# Altium schematic symbol library SchemaitcLib.SchLib: 140 symbols (part 1 of 2)
Pins are listed as number, name and electrical type; pins without a type are passive.

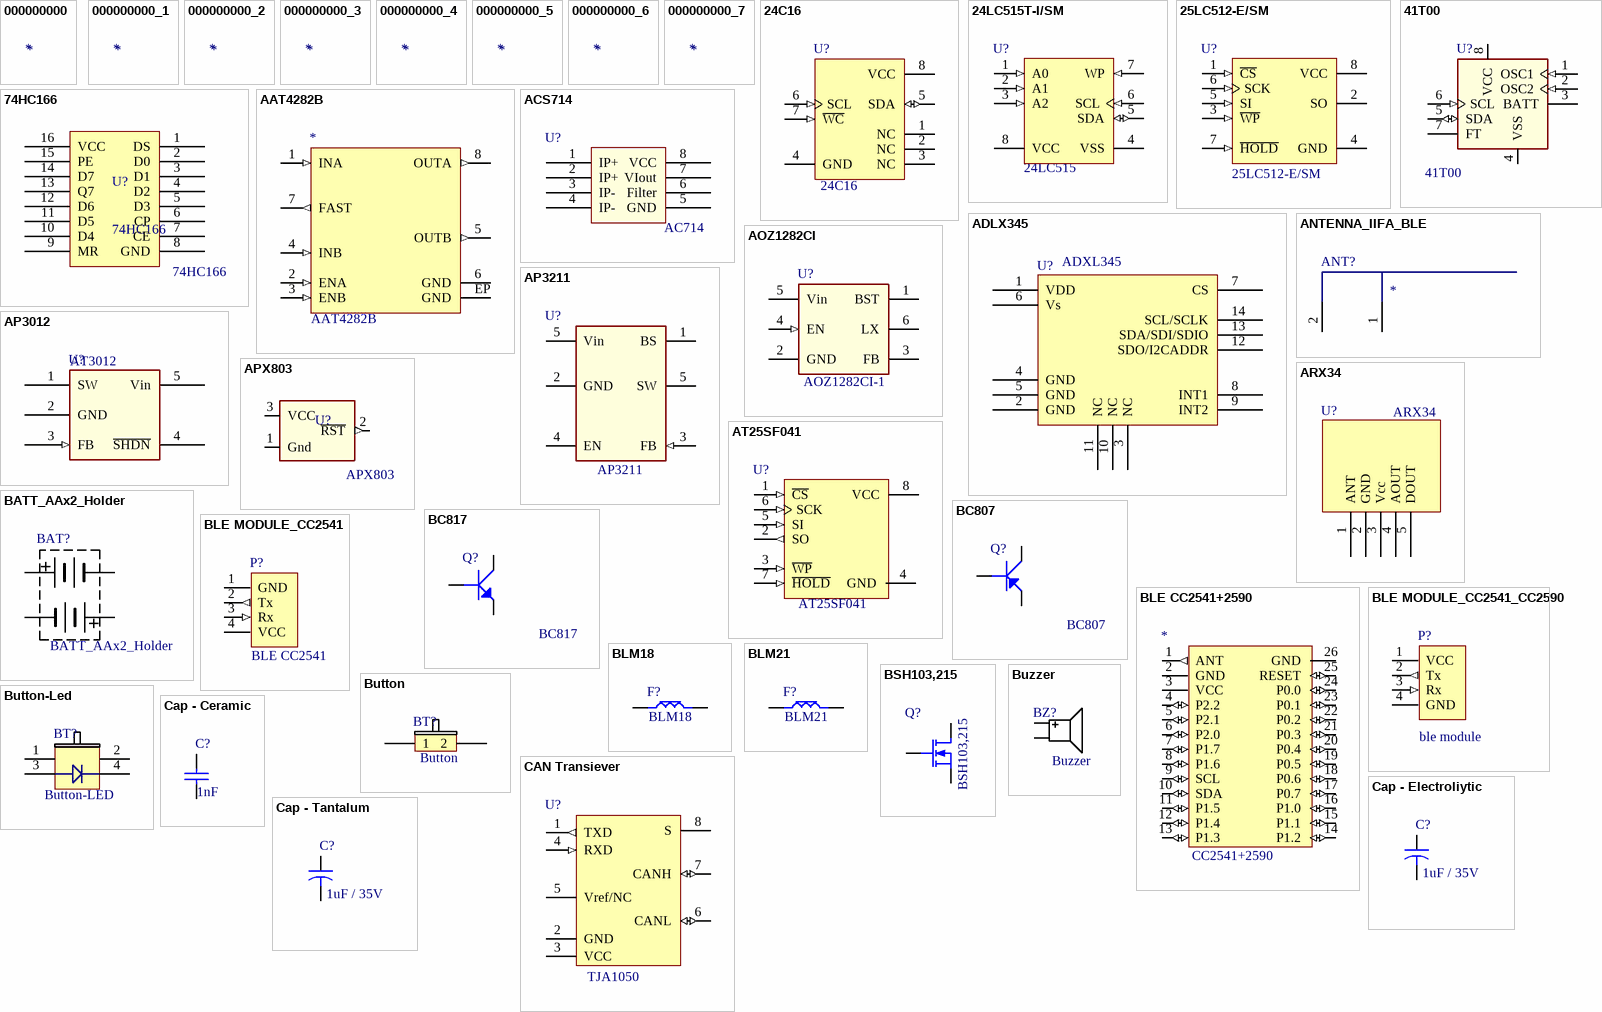
[diagram p0: symbols 000000000 to Cap - Tantalum]

## 000000000
designator *
Satıcı: Digikey; Depo Kodu: *; Paket: *; Satın Alma Linki: *; Datasheet: *; Manufacture Code: *; Satıcı Kodu: *; Value: *

## 000000000_1
designator *
Satıcı: Digikey; Depo Kodu: *; Paket: *; Satın Alma Linki: *; Datasheet: *; Manufacture Code: *; Satıcı Kodu: *; Value: *

## 000000000_2
designator *
Satıcı: Digikey; Depo Kodu: *; Paket: *; Satın Alma Linki: *; Datasheet: *; Manufacture Code: *; Satıcı Kodu: *; Value: *

## 000000000_3
designator *
Satıcı: Digikey; Depo Kodu: *; Paket: *; Satın Alma Linki: *; Datasheet: *; Manufacture Code: *; Satıcı Kodu: *; Value: *

## 000000000_4
designator *
Satıcı: Digikey; Depo Kodu: *; Paket: *; Satın Alma Linki: *; Datasheet: *; Manufacture Code: *; Satıcı Kodu: *; Value: *

## 000000000_5
designator *
Satıcı: Digikey; Depo Kodu: *; Paket: *; Satın Alma Linki: *; Datasheet: *; Manufacture Code: *; Satıcı Kodu: *; Value: *

## 000000000_6
designator *
Satıcı: Digikey; Depo Kodu: *; Paket: *; Satın Alma Linki: *; Datasheet: *; Manufacture Code: *; Satıcı Kodu: *; Value: *

## 000000000_7
designator *
Satıcı: Digikey; Depo Kodu: *; Paket: *; Satın Alma Linki: *; Datasheet: *; Manufacture Code: *; Satıcı Kodu: *; Value: *

## 24C16
designator U?
16Kbit Serial I²C Bus EEPROM; Depo Kodu: IC#MEMORY#EEPROM#24C16; Paket: SOIC8; Satıcı: Digikey; Birim Fiyat: 0.37 USD; Satın Alma Linki: http://www.digikey.com/product-detail/en/AT24C16D-SSHM-B/AT24C16D-SSHM-B-ND/5013501; Datasheet: http://www.atmel.com/Images/Atmel-8906-SEEPROM-AT24C16D-Datasheet.pdf; Value: 24C16
footprint SOIC8 (SOIC, 8-Leads, Body 5,0x4,0mm (max), Pitch 1,27mm, IPC Low Density)
pins: 1 NC, 2 NC, 3 NC, 4 GND (power), 5 SDA (io), 6 SCL (in), 7 ~{WC} (in), 8 VCC (power)

## 24LC515T-I/SM
designator U?, comment 24LC515
512Kbit, 400kHz, 2.5V, I2C Serial EEPROM, 8-Pin SOIC 208mil, Industrial Temperature, Tape and Reel; Depo Kodu: IC#MEMORY#EEPROM#24C512; Paket: SOIC8; Satıcı: Digikey; Birim Fiyat: * USD; Satın Alma Linki: *; Datasheet: *; Value: 24LC515
footprint SOIC8 (SOIC, 8-Leads, Body 5,0x4,0mm (max), Pitch 1,27mm, IPC Low Density)
pins: 1 A0 (in), 2 A1 (in), 3 A2 (in), 4 VSS (power), 5 SDA (io), 6 SCL (in), 7 WP (in), 8 VCC (power)

## 25LC512-E/SM
designator U?
512 Kbit SPI Bus Serial EEPROM, 8-Pin SOIC, Extended Temperature; Depo Kodu: IC#MEMORY#EEPROM#25LC512-E/SM; Paket: SOIC8; Satıcı: Digikey; Birim Fiyat: * USD; Satın Alma Linki: *; Datasheet: *; Value: 25LC512-E/SM
footprint SOIC8 (SOIC, 8-Leads, Body 5,0x4,0mm (max), Pitch 1,27mm, IPC Low Density)
pins: 1 ~{CS} (in), 2 SO (hiz), 3 ~{WP} (in), 4 GND (power), 5 SI (in), 6 SCK (in), 7 ~{HOLD} (in), 8 VCC (power)

## 41T00
designator U?
Real Time Clock; Depo Kodu: IC#RTC#41T00; Paket: SOIC8; Satıcı: Digikey; Birim Fiyat: 1.1 USD; Satın Alma Linki: http://www.digikey.com/product-detail/en/M41T00M6F/497-4697-2-ND/868914; Datasheet: http://www.st.com/web/en/resource/technical/document/datasheet/CD00001542.pdf; Value: 41T00
footprint soic8 (SOIC, 8-Leads, Body 5,0x4,0mm (max), Pitch 1,27mm, IPC Low Density)
pins: 1 OSC1 (in), 2 OSC2 (in), 3 BATT (power), 4 VSS (power), 5 SDA (io), 6 SCL (in), 7 FT, 8 VCC (power)

## 74HC166
designator U?
Shift Register; Depo Kodu: IC#SHIFTREG#74HC166; Paket: SOCI16; Satıcı: Digikey; Birim Fiyat: 0.47 USD; Satın Alma Linki: http://www.digikey.com/product-detail/en/SN74HC166DR/296-14839-1-ND/562680; Datasheet: http://www.ti.com/lit/ds/symlink/sn74hc166.pdf; Value: 74HC166
footprint SOIC16 (SOIC, 16-Leads, Body 10,0x4,0mm (max), Pitch 1,27mm, IPC Low Density)
pins: 1 DS, 2 D0, 3 D1, 4 D2, 5 D3, 6 CP, 7 CE, 8 GND, 9 MR, 10 D4, 11 D5, 12 D6, 13 Q7, 14 D7, 15 PE, 16 VCC

## AAT4282B
designator *
Slew Rate Controlled Load Switch; Satıcı: Digikey; Depo Kodu: *; Paket: *; Satın Alma Linki: *; Datasheet: *; Manufacture Code: AAT4282B; Satıcı Kodu: *; Value: AAT4282B
footprint TDFN22-8
pins: 1 INA (in), 2 ENA (in), 3 ENB (in), 4 INB (in), 5 OUTB (out), 6 GND (power), 7 FAST (out), 8 OUTA (out), EP GND (power)

## ACS714
designator U?, comment AC714
Linear Hall Effect Current Sensor 5A; Depo Kodu: IC#SENSOR#CURRENT#ACS714; Paket: SOIC8; Satıcı: Digikey; Birim Fiyat: 4.97 USD; Satın Alma Linki: http://www.digikey.com/product-detail/en/ACS714ELCTR-20A-T/620-1259-1-ND/1955901; Datasheet: http://www.allegromicro.com/en/Products/Part_Numbers/0714/0714.pdf; Value: AC714
footprint SOIC8 (SOIC, 8-Leads, Body 5,0x4,0mm (max), Pitch 1,27mm, IPC Low Density)
pins: 1 IP+, 2 IP+, 3 IP-, 4 IP-, 5 GND, 6 Filter, 7 VIout, 8 VCC

## ADLX345
designator U?, comment ADXL345
3 Axis, ±2 g/±4 g/±8 g/±16 g  Digital Accelerometer; Depo Kodu: IC#SENSOR#ACCELOREMETER#ADXL345; Paket: LGA14; Satıcı: Digikey; Birim Fiyat: 7.32 USD; Satın Alma Linki: http://www.digikey.com/product-detail/en/ADXL345BCCZ/ADXL345BCCZ-ND/2034829; Datasheet: http://www.analog.com/media/en/technical-documentation/data-sheets/ADXL345.pdf; Value: ADXL345
footprint LGA14
pins: 1 VDD (power), 2 GND (power), 3 NC (power), 4 GND (power), 5 GND (power), 6 Vs (power), 7 CS (power), 8 INT1 (power), 9 INT2 (power), 10 NC (power), 11 NC (power), 12 SDO/I2CADDR (power), 13 SDA/SDI/SDIO (power), 14 SCL/SCLK (power)

## ANTENNA_IIFA_BLE
designator ANT?  (no BOM)
Antenna single ended IIFA, 2450 MHz; Satıcı: Digikey; Birim Fiyat: * USD; Depo Kodu: *; Paket: *; Satın Alma Linki: *; Datasheet: *; Value: *
pins: 1, 2

## AOZ1282CI
designator U?, comment AOZ1282CI-1
Buck Switching Regulator IC Positive Adjustable 0.8V 1 Output 600mA SOT-23-6; Paket: SOT23-6; Satıcı: Digikey; Birim Fiyat: 0,89; Depo Kodu: *; Satın Alma Linki: http://www.digikey.com/product-detail/en/alpha-omega-semiconductor-inc/AOZ1282CI-1/785-1750-1-ND/5451916; Datasheet: http://www.aosmd.com/res/data_sheets/AOZ1282CI-1.pdf; Value: AOZ1282CI-1
footprint SOT23-6
pins: 1 BST (power), 2 GND (power), 3 FB, 4 EN (in), 5 Vin (power), 6 LX (power)

## AP3012
designator U?, comment AT3012
1.5MHz STEP-UP DC-DC CONVERTER; Depo Kodu: REGULATOR#SWITCH#BOOST#AP3012; Paket: SOT23-5; Satıcı: Digikey; Birim Fiyat: 0,48; Satın Alma Linki: http://www.digikey.com/product-detail/en/diodes-incorporated/AP3012KTR-G1/AP3012KTR-G1DICT-ND/4505297; Datasheet: http://www.diodes.com/_files/datasheets/AP3012.pdf; Value: AT3012
footprint SOT23-5
pins: 1 SW (power), 2 GND (power), 3 FB (in), 4 ~{SHDN}, 5 Vin (power)

## AP3211
designator U?
1.4MHz, 1.5A ASYNCHRONOUS DC-DC BUCK CONVERTER; Manufacturer Code: AP3211KTR-G1; Paket: SOT23-6; Satıcı: Digikey; Birim Fiyat: 0,54; Seller Code: AP3211KTR-G1DICT-ND; Depo Kodu: *; Satın Alma Linki: http://www.digikey.com/product-detail/en/diodes-incorporated/AP3211KTR-G1/AP3211KTR-G1DICT-ND/4505305; Datasheet: https://www.diodes.com/assets/Datasheets/AP3211.pdf; Value: AP3211
footprint SOT23-6
pins: 1 BS (power), 2 GND (power), 3 FB (in), 4 EN, 5 SW (power), 5 Vin (power)

## APX803
designator U?
3.3V Reset entegresi; Depo Kodu: IC#APX803; Paket: SOT23-3; Satıcı: Digikey; Birim Fiyat: 0.43 USD; Satın Alma Linki: http://www.digikey.com/product-detail/en/APX803-46SAG-7/APX803-46SAG-7DICT-ND/2279219; Datasheet: http://www.diodes.com/_files/datasheets/APX803.pdf; Value: APX803
footprint SOT23-3 (SOT23, 3 pin)
pins: 1 Gnd (power), 2 ~{RST} (out), 3 VCC

## ARX34
designator U?
UDEA Receiver; Depo Kodu: RF#ARX34; Satıcı: Digikey; Birim Fiyat: * USD; Paket: *; Satın Alma Linki: *; Datasheet: *; Value: ARX34
footprint ARX-34 (Udea ARX-34, 0.54mm)
pins: 1 ANT, 2 GND, 3 Vcc, 4 AOUT, 5 DOUT

## AT25SF041
designator U?
4-Mbit, 2.5V Minimum  SPI Serial Flash Memory with Dual-I/O and Quad-I/O Support; Depo Kodu: IC#MEMORY#FLASH#AT25SF041; Paket: SOIC8; Satıcı: Mouser; Birim Fiyat: 0,319; Satın Alma Linki: http://www.mouser.com.tr/ProductDetail/Adesto-Technologies/AT25SF041-SSHD-B/?qs=sGAEpiMZZMs6Aik9Fp479kHX9u0T8DQbYIXHvozLTkA%3d; Datasheet: http://www.adestotech.com/wp-content/uploads/DS-AT25SF041_044.pdf; Value: AT25SF041
footprint SOIC8 (SOIC, 8-Leads, Body 5,0x4,0mm (max), Pitch 1,27mm, IPC Low Density)
pins: 1 ~{CS} (in), 2 SO (out), 3 ~{WP} (in), 4 GND (power), 5 SI (in), 6 SCK (in), 7 ~{HOLD} (in), 8 VCC (power)

## BATT_AAx2_Holder
designator BAT?
Battery holder 2xAA PCB mount; Satıcı: Digikey; Birim Fiyat: * USD; Depo Kodu: *; Paket: *; Satın Alma Linki: *; Datasheet: *; Value: BATT_AAx2_Holder
footprint BATT_HOLDER_2XAA (2-cell AA battery holder)
pins: C1+, C1-, C2+, C2-

## BC807
designator Q?
Transistor, BC807; Depo Kodu: TR#PNP#BC807; Paket: SOT23-3; Satıcı: Digikey; Birim Fiyat: 0.14 USD; Satın Alma Linki: http://www.digikey.com/product-detail/en/BC807-40,215/568-1629-1-ND/763456; Datasheet: http://www.nxp.com/documents/data_sheet/BC807_BC807W_BC327.pdf; Value: BC807
footprint sot23-3 (SOT23, 3 pin)
pins: 1 B, 2 E, 3 C

## BC817
designator Q?
Transistor, BC817; Depo Kodu: TR#NPN#BC817; Paket: SOT23-3; Satıcı: Digikey; Birim Fiyat: 0.12 USD; Satın Alma Linki: http://www.digikey.com/product-detail/en/BC817-25LT1G/BC817-25LT1GOSCT-ND/917829; Datasheet: http://www.onsemi.com/pub_link/Collateral/BC817-16LT1-D.PDF; Value: BC817
footprint sot23-3 (SOT23, 3 pin)
pins: 1 B, 2 E, 3 C

## BLE CC2541+2590
designator *, comment CC2541+2590
Satıcı: Digikey; Birim Fiyat: * USD; Depo Kodu: *; Paket: *; Satın Alma Linki: *; Datasheet: *; Value: CC2541+2590
footprint BLE Module - CC2541+CC2590
pins: 1 ANT (out), 2 GND (power), 3 VCC (power), 4 P2.2 (io), 5 P2.1 (io), 6 P2.0 (io), 7 P1.7 (io), 8 P1.6 (io), 9 SCL (io), 10 SDA (io), 11 P1.5 (io), 12 P1.4 (io), 13 P1.3 (io), 14 P1.2 (io), 15 P1.1 (io), 16 P1.0 (io), 17 P0.7 (io), 18 P0.6 (io), 19 P0.5 (io), 20 P0.4 (io), 21 P0.3 (io), 22 P0.2 (io), 23 P0.1 (io), 24 P0.0 (io), 25 RESET (io), 26 GND (power)

## BLE MODULE_CC2541
designator P?, comment BLE CC2541
CC2541; Satıcı: Digikey; Birim Fiyat: * USD; Depo Kodu: *; Paket: *; Satın Alma Linki: *; Datasheet: *; Value: BLE CC2541
footprint BLE Module-2541
pins: 1 GND (power), 2 Tx (out), 3 Rx (in), 4 VCC (power)

## BLE MODULE_CC2541_CC2590
designator P?, comment ble module
Satıcı: Digikey; Birim Fiyat: * USD; Depo Kodu: *; Paket: *; Satın Alma Linki: *; Datasheet: *; Value: ble module
footprint BLE Module-2541-2590
pins: 1 VCC (power), 2 Tx (out), 3 Rx (in), 4 GND (power)

## BLM18
designator F?
Ferrite Bead, BLM18; Depo Kodu: FERRITEBEAD#BLM18; Paket: 0603; Satıcı: Digikey; Birim Fiyat: 0.1 USD; Satın Alma Linki: http://www.digikey.com/product-detail/en/BLM18AG601SN1D/490-1014-1-ND/584462; Datasheet: http://search.murata.co.jp/Ceramy/image/img/PDF/ENG/L0110S0100BLM18A.pdf; Value: BLM18
footprint F.0603 (Ferrite Bead, Body 1.6x0.8mm, IPC High Density)
pins: 1, 2

## BLM21
designator F?
Ferrite Bead, BLM21; Depo Kodu: FERRITEBEAD#BLM21; Paket: 0603; Satıcı: Digikey; Birim Fiyat: 0.11 USD; Satın Alma Linki: http://www.digikey.com/product-detail/en/BLM21PG221SN1D/490-1054-1-ND/574418; Datasheet: http://search.murata.co.jp/Ceramy/image/img/w_hinm/L0110E.pdf; Value: BLM21
footprint F.0603 (Ferrite Bead, Body 1.6x0.8mm, IPC High Density)
footprint f.0805
pins: 1, 2

## BSH103,215
designator Q?
N-Channel 30V 850mA (Ta) 540mW (Ta) Surface Mount SOT-23 (TO-236AB); Paket: SOT23-3; Satıcı: Digikey; Birim Fiyat: 0,36; Depo Kodu: *; Satın Alma Linki: http://www.digikey.com/product-detail/en/nxp-usa-inc/BSH103,215/568-5013-1-ND/2209929; Datasheet: http://www.nxp.com/documents/data_sheet/BSH103.pdf; Value: BSH103,215
footprint sot23-3 (SOT23, 3 pin)
pins: 1 G, 2 S, 3 D

## Button
designator BT?
Button, 2 pin; Depo Kodu: SW#BUTTON; Satıcı: Digikey; Birim Fiyat: * USD; Paket: *; Satın Alma Linki: *; Datasheet: *; Satıcı Kodu: *; Value: Button
footprint Button-4pin (4pin EKO'da kullanılan Buton)
footprint Button_Mini
footprint SWITCH_TACT-EVQPQxB55 (Panasonic SMD tact switch 4.5x4.5x0.55mm, EVQPQxB55)
footprint TACT-SWITCH-TC-37XB (Wealth Metal sealed TH tact switch)
footprint TACT-SWITCH-TS1143 (Bondtact sealed TH tact switch)
footprint Tactile Button 2
footprint Tactile Button 3
footprint Tactile Button 3
footprint TactileButton (Mando Tactile Button)
footprint TACT_SWITCH_TL-1105-C (E-Switch TL1105 series tact switch 8.0mm stem height)
pins: 1, 2

## Button-Led
designator BT?, comment Button-LED
Button, 2 pin; Depo Kodu: SW#BUTTON-LED; Satıcı: Digikey; Paket: *; Satın Alma Linki: *; Birim Fiyat: *; Datasheet: *; Satıcı Kodu: *; Value: Button-LED
footprint Button-4pin - Led (4pin EKO'da kullanılan Buton)
pins: 1, 2, 3 A, 4 k

## Buzzer
designator BZ?
Speaker, Magnetic Transducer; Depo Kodu: BZ#BUZZER; Satıcı: Digikey; Birim Fiyat: * USD; Paket: *; Satın Alma Linki: *; Datasheet: *; Value: Buzzer
footprint BUZZER_12.0X7MM
footprint BUZZER_12.0X8.5MM
footprint STD_RAD_10PX1HLX22DX8.5 (Standard Radial, 10mm pin space, 1mm Hole, 22mm diametre, 8.5mm height)
pins: 1 Positive, 2 Negative

## CAN Transiever
designator U?, comment TJA1050
Can transiever; Depo Kodu: IC#CONVERTER#CAN; Paket: SOIC8; Satıcı: Digikey; Birim Fiyat: * USD; Satın Alma Linki: *; Datasheet: *; Value: TJA1050
footprint SOIC8 (SOIC, 8-Leads, Body 5,0x4,0mm (max), Pitch 1,27mm, IPC Low Density)
pins: 1 TXD (out), 2 GND (power), 3 VCC (power), 4 RXD (in), 5 Vref/NC (power), 6 CANL (io), 7 CANH (io), 8 S

## Cap - Ceramic
designator C?, comment 1nF
Capacitor, Ceramic; Depo Kodu: CAP#CERAMIC#; Satıcı: Digikey; Birim Fiyat: * USD; Tolerans: %10; Paket: *; Satın Alma Linki: *; Datasheet: *; Gerilim: *; Sıcaklık Katsayısı: *; Value: 1nF
footprint c.0603 (Chip Capacitor, Body 1.6x0.8mm, IPC High Density)
footprint c.0805 (Chip Capacitor, Body 2.0x1.3mm, IPC High Density)
footprint c.1206 (Chip Capacitor, 2-Leads, Body 3,2x1,6mm, IPC Low Density)
footprint c.1210l (Chip Capacitor, Body 3.2x2.5mm, IPC High Density)
footprint c.1210m (Chip Capacitor, Body 3.2x2.5mm, IPC Low Density)
footprint c.1210n (Chip Capacitor, Body 3.2x2.5mm, IPC Medium Density)
footprint c.2825 (Chip Capacitor, 2-Leads, Body 7,1x6,3mm, IPC Low Density)
footprint CAP_5.08Px0.8HLx7.8Lx3.2Wx6H (Capacitor, Ceramic, Thru-Hole, Dipped Radial; Body 7.8 x 3.2 mm (WxT) Pin Spacing 5.08 mm (typ))
footprint cap_mkp (10nF -400V AC MKP)
footprint capc2012n (Chip Capacitor, Body 2.0x1.2mm, 0805, IPC Medium Density)
footprint capc1005n (Chip Capacitor, Body 1.0x0.5mm, 0402, IPC Medium Density)
footprint capc5750n (Chip Capacitor, Body 5.7x5.0mm, 2220, IPC Medium Density)
footprint capmf5.0-7.5mm_sl (Capacitor, THT, Metallized Polyester Film)
footprint CAPMF12.5x4.5x9.0x10mmLS (Capacitor, MF, Thru-Hole, Dipped Radial; Body 12.5 x 4.5 x 9.0 mm (WxTxH) Pin Spacing 10.0 mm (typ))
footprint capmf7.5mm (Capacitor, THT, Metallized Polyester Film)
footprint capr7.62-6.8x2.5 (Capacitor, MF, Thru-Hole, Dipped Radial; Body 6.8 x 2.5 mm (WxT) Pin Spacing 7.62 mm (typ))
pins: 1, 2

## Cap - Electroliytic
designator C?, comment 1uF / 35V
Capacitor, Electrolytic; Depo Kodu: CAP#ELECTROLYTIC#; Satıcı: Digikey; Birim Fiyat: * USD; Paket: *; Satın Alma Linki: *; Datasheet: *; Value: 1uF / 35V
footprint CAPE10.0MM_Rad_10x14mm (10mm Pitch Radial Capacitor 10x14mm DxH)
footprint cape5.0mm
footprint capae200p550x1200_flat2
footprint cape3.5mm
footprint cap_el_d (Electrolitic Capacitor, D size SMD)
footprint cap_el_rad_5px0.8hlx10.1dx15.2h (Electrolitic Radial Capacitor, 5mm pin space, 0.8mm Hole, 10.1mm diametre, 15.2 height)
footprint CAP_ELEC_5x5.7 (Capacitor, polarized, aluminum can; 5x5.7mm DxH)
footprint CAP_ELEC_6.3x4.2 (Capacitor, polarized, aluminum can; 6.3x4.2mm DxH)
footprint CAP_ELEC_SIZE_E (Capacitor, polarized, aluminum can; 8.0x6.2mm DxH)
footprint CAP_ELEC_SIZE_G (Capacitor, polarized, aluminum can; 10.0x10.2mm DxH)
footprint CAP_ELEC_SIZE_H13 (Capacitor, polarized, aluminum can; 12.5x13.5mm DxH)
pins: 1, 2

## Cap - Tantalum
designator C?, comment 1uF / 35V
Capacitor, Tantalum; Depo Kodu: CAP#TANTALUM#; Satıcı: Digikey; Birim Fiyat: * USD; Paket: *; Satın Alma Linki: *; Datasheet: *; Value: 1uF / 35V
footprint capmp6032x280n (Capacitor, polarized, Molded Body, EIA 535BAAC size C; 6.00mm L X 3.20mm W X 2.80mm H)
footprint capmp3216x180n (Capacitor, polarized, Molded Body, EIA 535BAAC size A; 3.20mm L X 1.60mm W X 1.80mm H)
footprint capmp2012x150usr (Molded body capacitor, Body 2.0x1.2mm, 0805, IPC Medium Density)
footprint capmp3528x210n (Molded body capacitor, Body 3.5x2.8mm, 1210, IPC Nominal settings)
footprint capmp7343x310n (Molded body capacitor, Body 7.3x4.3mm, 2917, IPC Nominal settings)
footprint cap_m_d (Molded Capacitor, 2-Leads, Body 7,3x4,3mm, IPC Low Density)
pins: 1, 2

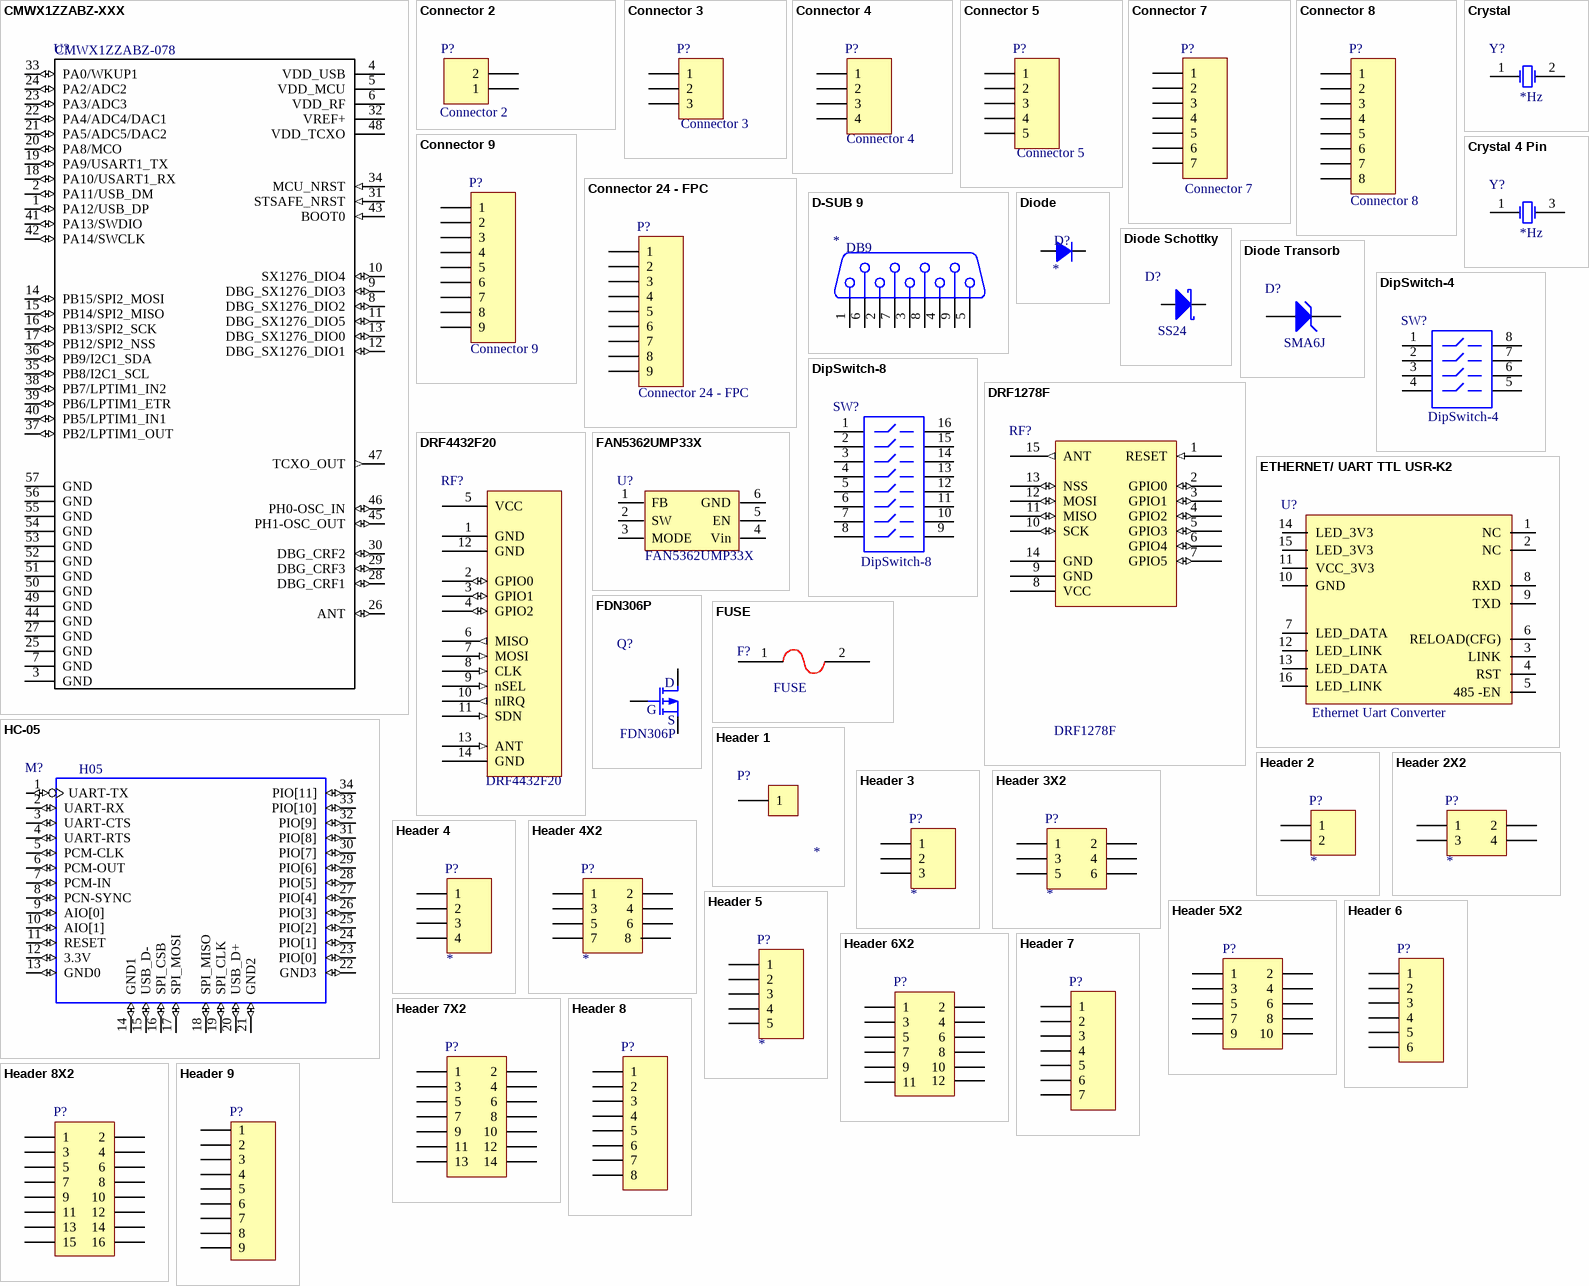
[diagram p1: symbols CMWX1ZZABZ-XXX to Header 9]

## CMWX1ZZABZ-XXX
designator U?, comment CMWX1ZZABZ-078
RF MODULE 860-930MHz 12.5x11.6x1.76mm 3.3Vdc; Satıcı: Digikey; Birim Fiyat: 17.82; Satıcı Kodu: 490-16143-1-ND; Depo Kodu: *; Paket: *; Satın Alma Linki: https://www.digikey.com/product-detail/en/murata-electronics-north-america/CMWX1ZZABZ-078/490-16143-1-ND/6834151; Datasheet: http://wireless.murata.com/RFM/data/type_abz.pdf; Manufacture Code: CMWX1ZZABZ-078; Value: CMWX1ZZABZ-078
footprint CMWX1ZZABZ-078 (LoRa End Device)
pins: 1 PA12/USB_DP (io), 2 PA11/USB_DM (io), 3 GND (power), 4 VDD_USB (power), 5 VDD_MCU (power), 6 VDD_RF (power), 7 GND (power), 8 DBG_SX1276_DIO2 (io), 9 DBG_SX1276_DIO3 (io), 10 SX1276_DIO4 (io), 11 DBG_SX1276_DIO5 (io), 12 DBG_SX1276_DIO1 (io), 13 DBG_SX1276_DIO0 (io), 14 PB15/SPI2_MOSI (io), 15 PB14/SPI2_MISO (io), 16 PB13/SPI2_SCK (io), 17 PB12/SPI2_NSS (io), 18 PA10/USART1_RX (io), 19 PA9/USART1_TX (io), 20 PA8/MCO (io), 21 PA5/ADC5/DAC2 (io), 22 PA4/ADC4/DAC1 (io), 23 PA3/ADC3 (io), 24 PA2/ADC2 (io), 25 GND (power), 26 ANT (io), 27 GND (power), 28 DBG_CRF1 (io), 29 DBG_CRF3 (io), 30 DBG_CRF2 (io), 31 STSAFE_NRST (in), 32 VREF+ (power), 33 PA0/WKUP1 (io), 34 MCU_NRST (in), 35 PB8/I2C1_SCL (io), 36 PB9/I2C1_SDA (io), 37 PB2/LPTIM1_OUT (io), 38 PB7/LPTIM1_IN2 (io), 39 PB6/LPTIM1_ETR (io), 40 PB5/LPTIM1_IN1 (io), 41 PA13/SWDIO (io), 42 PA14/SWCLK (io), 43 BOOT0 (in), 44 GND (power), 45 PH1-OSC_OUT (io), 46 PH0-OSC_IN (io), 47 TCXO_OUT (out), 48 VDD_TCXO (power), 49 GND (power), 50 GND (power), 51 GND (power), 52 GND (power), 53 GND (power), 54 GND (power), 55 GND (power), 56 GND (power), 57 GND (power)

## Connector 2
designator P?
Connector, 2-Pin; Depo Kodu: CONNECTOR#; Satıcı: Digikey; Birim Fiyat: * USD; Paket: *; Satın Alma Linki: *; Datasheet: *; Value: Connector 2
footprint klm_jbox_2 - 90 (90 Derece 2 Pin Yesil Konnektor)
footprint con2_2.5px0.9hlx7.5lx5.7wx7h (Connector; 2 Position, 2.5mm pin space, 0.9mm hole, Body 7.5x5.7mm, Height 7mm)
pins: 1, 2

## Connector 3
designator P?
Connector, 3 Pin; Depo Kodu: CONNECTOR#; Satıcı: Digikey; Birim Fiyat: * USD; Paket: *; Satın Alma Linki: *; Datasheet: *; Value: Connector 3
footprint con.3bd_l (Adaptör PCB'si Konnektörü)
footprint klm_jbox_3 - 90 (90 Derece 3 Pin Yesil Konnektor)
footprint CON3_2.5Px0.9HLx10Lx5.7Wx7H (Connector; 3 Position, 2.5mm pin space, 0.9mm hole, Body 10x5.7mm, Height 7mm)
footprint Pin Header 1x3 TH Pitch 2.54mm (PinHeader 1x3 TH Pitch 2.54mm)
pins: 1, 2, 3

## Connector 4
designator P?
Connector, 4 Pin; Depo Kodu: CONNECTOR#; Satıcı: Digikey; Birim Fiyat: * USD; Paket: *; Satın Alma Linki: *; Datasheet: *; Value: Connector 4
footprint klm_jbox_4 - 90 (90 Derece 4 Pin Yesil Konnektor)
footprint CON4_2.5Px0.9HLx15Lx5.7Wx7H - duplicate (Connector; 4 Position, 2.5mm pin space, 0.9mm hole, Body 15x5.7mm, Height 7mm)
footprint klm_jbox_4 - 45 (45 Derece 4 Pin Yesil Konnektor)
pins: 1, 2, 3, 4

## Connector 5
designator P?
Connector, 5 Pin; Depo Kodu: CONNECTOR#; Satıcı: Digikey; Birim Fiyat: * USD; Paket: *; Satın Alma Linki: *; Datasheet: *; Value: Connector 5
footprint con5 (5mm aralıklı)
footprint kls_jbox_5 - 90 (90 Derece 5 Pin Yesil Konnektor)
footprint CON5_2.5Px0.9HLx15Lx5.7Wx7H (Connector; 5 Position, 2.5mm pin space, 0.9mm hole, Body 15x5.7mm, Height 7mm)
pins: 1, 2, 3, 4, 5

## Connector 7
designator P?
Connector, 7 Pin; Depo Kodu: CONNECTOR#; Satıcı: Digikey; Birim Fiyat: * USD; Paket: *; Satın Alma Linki: *; Datasheet: *; Value: Connector 7
footprint con7 (5mm aralıklı)
footprint CON7_2.5Px0.9HLx20Lx5.7Wx7H (Connector; 7 Position, 2.5mm pin space, 0.9mm hole, Body 20x5.7mm, Height 7mm)
pins: 1, 2, 3, 4, 5, 6, 7

## Connector 8
designator P?
Connector, 8 Pin; Depo Kodu: CONNECTOR#; Satıcı: Digikey; Birim Fiyat: * USD; Paket: *; Satın Alma Linki: *; Datasheet: *; Value: Connector 8
footprint tapextendercon8 (Tap Extender'a Kullanılan Konnektor 8pin)
pins: 1, 2, 3, 4, 5, 6, 7, 8

## Connector 9
designator P?
Connector, 9 Pin; Depo Kodu: CONNECTOR#; Satıcı: Digikey; Birim Fiyat: * USD; Paket: *; Satın Alma Linki: *; Datasheet: *; Value: Connector 9
footprint CON9_2.5Px0.9HLx20Lx5.7Wx7H (Connector; 9 Position, 2.5mm pin space, 0.9mm hole, Body 20x5.7mm, Height 7mm)
pins: 1, 2, 3, 4, 5, 6, 7, 8, 9

## Connector 24 - FPC
designator P?
Connector, 24 Pin FPC; Satıcı: Digikey; Birim Fiyat: * USD; Depo Kodu: CONNECTOR; Paket: *; Satın Alma Linki: *; Datasheet: *; Value: Connector 24 - FPC
footprint FPC-24 (24 way 0.5 pitch FPC Connector)
pins: 1, 2, 3, 4, 5, 6, 7, 8, 9

## Crystal
designator Y?, comment *Hz
Crystal Oscillator; Depo Kodu: CRYSTAL#; Satıcı: Digikey; Paket: *; Satın Alma Linki: *; Birim Fiyat: *; Datasheet: *; Value: *Hz
footprint CRYSTAL_CMR309T (SMD Crystal CMR309T package)
footprint CRYSTAL_HC49-US-SM (SMD Crystal HC49/US-SM package)
footprint XTAL (Standart Radial, 2 pin, 4.88mm pin space, 0.6mm Hole, Body 11.5x5mm, 3.68 height)
footprint XTAL - YATIK (Standart Radial, 2 pin, 4.88mm pin space, 0.6mm Hole, Body 11.5x5mm, 3.68 height)
footprint XTAL_1.27Px2Dx6L (Crystal, 1.27 pin space, yatik)
footprint STD_RAD_4.88Px0.6HLx11.5Lx5Wx3.68 (Standart Radial, 2 pin, 4.88mm pin space, 0.6mm Hole, Body 11.5x5mm, 3.68 height)
footprint CRYSTAL_2-SMD (SMD Crystal 4-lead leadless package)
pins: 1 OSC1, 2 OSC2

## Crystal 4 Pin
designator Y?, comment *Hz
Crystal Oscillator; Depo Kodu: CRYSTAL#; Satıcı: Digikey; Paket: *; Satın Alma Linki: *; Birim Fiyat: *; Datasheet: *; Value: *Hz
footprint CRYSTAL_4-LCC (SMD Crystal 4-lead leadless package)
footprint CRYSTAL_NX2520SA (SMD Crystal 4-lead leadless package)
footprint CRYSTAL_4-SMT (SMD Crystal 4-)
footprint CRY_4-LL-ABM (ABM3B-8.000MHZ-B2-T)
pins: 1 OSC1, 2 (io) hidden, 3 OSC2, 4 (io) hidden

## D-SUB 9
designator *, comment DB9
Receptacle Assembly, 9 Position, Right Angle; Depo Kodu: #Connector#DB9#; Satıcı: Digikey; Birim Fiyat: * USD; Paket: DB9; Satın Alma Linki: *; Datasheet: *; Value: DB9
footprint DSUB9_FEMALE (Desub; 9 Position, 2.5mm pin space)
footprint DSUB9_MALE (Desub; 9 Position, 2.5mm pin space)
footprint DSUB-9
pins: 1, 2, 3, 4, 5, 6, 7, 8, 9

## Diode
designator D?
Diode; Satıcı: Digikey; Birim Fiyat: * USD; Depo Kodu: *; Paket: *; Satın Alma Linki: *; Datasheet: *; Value: *
footprint SOD80, LL-34 (Diode, MiniMELF)
footprint DO-41 (Diode, thru-hole)
footprint minimelf (MELF Diode, 2-Leads, Body 3,5x1,5mm, IPC Low Density)
footprint sod123 (SOD-123; 2 Leads; Body 2.7 x 1.6 mm, (LxW))
pins: 1, 2

## Diode Schottky
designator D?, comment SS24
Schottky Diode, SS24; Depo Kodu: DIODE#SCHOTTKY#SS24; Paket: SMD; Satıcı: Digikey; Birim Fiyat: * USD; Satın Alma Linki: *; Datasheet: *; Value: SS24
footprint DIOM_DO214AC_SMA (Molded Diode, 2-Leads, Body 4,3x2,6mm, IPC Low Density)
footprint DO-41 (Diode, thru-hole)
footprint SOD123 (SOD-123; 2 Leads; Body 2.7 x 1.6 mm, (LxW))
footprint do-214ab (JEDEC DO214 variation AB. SMC)
footprint do-214aa (JEDEC DO214 variation AA. SMB)
pins: 1 A, 2 K

## Diode Transorb
designator D?, comment SMA6J
Transorb; Depo Kodu: DIODE#TRANSORB#SMA6J; Satıcı: Digikey; Birim Fiyat: * USD; Paket: *; Satın Alma Linki: *; Datasheet: *; Value: SMA6J
footprint DIOM_DO214AC_SMA (Molded Diode, 2-Leads, Body 4,3x2,6mm, IPC Low Density)
pins: 1 K, 2 A

## DipSwitch-4
designator SW?
4 'li DIP Switch; Satıcı: Digikey; Birim Fiyat: * USD; Depo Kodu: *; Paket: *; Satın Alma Linki: *; Datasheet: *; Value: DipSwitch-4
footprint DIPSWITCH4
pins: 1, 2, 3, 4, 5, 6, 7, 8

## DipSwitch-8
designator SW?
8 'li DIP Switch; Satıcı: Digikey; Birim Fiyat: * USD; Depo Kodu: *; Paket: *; Satın Alma Linki: *; Datasheet: *; Value: DipSwitch-8
footprint DipSwitch8
pins: 1, 2, 3, 4, 5, 6, 7, 8, 9, 10, 11, 12, 13, 14, 15, 16

## DRF1278F
designator RF?
Depo Kodu: MODULE#RF433#DRF1278F20; Paket: module; Satıcı: Aliexpress/Direnc.net; Birim Fiyat: * USD; Satın Alma Linki: *; Datasheet: http://www.dorji.com/docs/data/DRF1278F.pdf; Value: DRF1278F
footprint RF1278F (DRF1278F RF MODULE)
pins: 1 RESET (in), 2 GPIO0 (io), 3 GPIO1 (io), 4 GPIO2 (io), 5 GPIO3 (io), 6 GPIO4 (io), 7 GPIO5 (io), 8 VCC (power), 9 GND (power), 10 SCK (io), 11 MISO (io), 12 MOSI (io), 13 NSS (io), 14 GND (power), 15 ANT (out)

## DRF4432F20
designator RF?
Depo Kodu: MODULE#RF433#DRF4432F20; Paket: module; Satıcı: Aliexpress/Direnc.net; Birim Fiyat: * USD; Satın Alma Linki: *; Datasheet: http://dorji.com/docs/data/DRF4432F20.pdf; Value: DRF4432F20
footprint RF4432
pins: 1 GND (power), 2 GPIO0 (io), 3 GPIO1 (io), 4 GPIO2 (io), 5 VCC (power), 6 MISO (out), 7 MOSI (in), 8 CLK (in), 9 nSEL (in), 10 nIRQ (out), 11 SDN (in), 12 GND (power), 13 ANT (in), 14 GND (power)

## ETHERNET/ UART TTL USR-K2
designator U?, comment Ethernet Uart Converter
Satıcı: Digikey; Birim Fiyat: * USD; Depo Kodu: *; Paket: *; Satın Alma Linki: *; Datasheet: *; Value: Ethernet Uart Converter
pins: 1 NC (power), 2 NC (power), 3 LINK (power), 4 RST (power), 5 485 -EN (power), 6 RELOAD(CFG) (power), 7 LED_DATA (power), 8 RXD (power), 9 TXD (power), 10 GND (power), 11 VCC_3V3 (power), 12 LED_LINK (power), 13 LED_DATA (power), 14 LED_3V3 (power), 15 LED_3V3 (power), 16 LED_LINK (power)

## FAN5362UMP33X
designator U?
3MHz, 500mA / 750mA Synchronous Buck Converter; Depo Kodu: REGULATOR#SWITCH#FAN5362UMP33X; Paket: UMLP; Satıcı: Digikey; Birim Fiyat: 1.05 USD; Satın Alma Linki: http://www.digikey.com/product-detail/en/fairchild-semiconductor/FAN5362UMP33X/FAN5362UMP33XCT-ND/3908079; Datasheet: http://www.fairchildsemi.com/datasheets/FA/FAN5362.pdf; Value: FAN5362UMP33X
footprint umlp
pins: 1 FB (power), 2 SW (power), 3 MODE (power), 4 Vin (power), 5 EN (power), 6 GND (power)

## FDN306P
designator Q?
P-Channel 1.8V Specified PowerTrench    MOSFET; Depo Kodu: TR#PCH#FDN306P; Paket: SOT23-3; Satıcı: Digikey; Birim Fiyat: * USD; Satın Alma Linki: *; Datasheet: http://www.fairchildsemi.com/datasheets/FD/FDN306P.pdf; Value: FDN306P
footprint SOT23-3 (SOT23, 3 pin)
pins: 1 G, 2 S, 3 D

## FUSE
designator F?
2A Cam Sigorta; Depo Kodu: FUSE#; Satıcı: Digikey; Birim Fiyat: * USD; Paket: *; Satın Alma Linki: *; Datasheet: *; Value: FUSE
footprint fuse
pins: 1, 2

## HC-05
designator M?, comment H05
MOUDLE-BLUETOOTH-HC-05(34P-27X13MM); Satıcı: Digikey; Birim Fiyat: * USD; Üretici Kodu: HC-05; Depo Kodu: *; Paket: *; Satın Alma Linki: *; Datasheet: *; Satıcı Kodu: *; Value: H05
footprint HC-05-34P-SMD (BT34P-SMD-1.5-26.9X13.0X2.2MM)
pins: 1 UART-TX (io), 2 UART-RX (io), 3 UART-CTS (io), 4 UART-RTS (io), 5 PCM-CLK (io), 6 PCM-OUT (io), 7 PCM-IN (io), 8 PCN-SYNC (io), 9 AIO[0] (io), 10 AIO[1] (io), 11 RESET (io), 12 3.3V (io), 13 GND0 (io), 14 GND1 (io), 15 USB_D- (io), 16 SPI_CSB (io), 17 SPI_MOSI (io), 18 SPI_MISO (io), 19 SPI_CLK (io), 20 USB_D+ (io), 21 GND2 (io), 22 GND3 (io), 23 PIO[0] (io), 24 PIO[1] (io), 25 PIO[2] (io), 26 PIO[3] (io), 27 PIO[4] (io), 28 PIO[5] (io), 29 PIO[6] (io), 30 PIO[7] (io), 31 PIO[8] (io), 32 PIO[9] (io), 33 PIO[10] (io), 34 PIO[11] (io)

## Header 1
designator P?
Header, 1-Pin; Satıcı: Digikey; Birim Fiyat: * USD; Depo Kodu: *; Paket: *; Satın Alma Linki: *; Datasheet: *; Value: *
footprint HDR1 (Connector; Header; 1 Position)
footprint 1x1POS_HEAD-SOCK_LOWPROF (Connector Socket with header, Single-row 1-position, 0.100" pitch)
pins: 1

## Header 2
designator P?
Header 2-Pin; Satıcı: Digikey; Birim Fiyat: * USD; Depo Kodu: *; Paket: *; Satın Alma Linki: *; Datasheet: *; Value: *
footprint HDR2 (Connector; Header; 2 Position)
pins: 1, 2

## Header 2X2
designator P?
Header, 2-Pin, Dual row; Satıcı: Digikey; Birim Fiyat: * USD; Depo Kodu: *; Paket: *; Satın Alma Linki: *; Datasheet: *; Value: *
footprint HDR2X2 (Connector; Header; 2x2 Position)
pins: 1, 2, 3, 4

## Header 3
designator P?
Header 3-Pin; Satıcı: Digikey; Birim Fiyat: * USD; Depo Kodu: *; Paket: *; Satın Alma Linki: *; Datasheet: *; Value: *
footprint HDR3 (Connector; Header; 3 Position)
pins: 1, 2, 3

## Header 3X2
designator P?
Header, 3-Pin, Dual row; Satıcı: Digikey; Birim Fiyat: * USD; Depo Kodu: *; Paket: *; Satın Alma Linki: *; Datasheet: *; Value: *
footprint HDR2X3 (Connector; Header; 3x2 Position)
pins: 1, 2, 3, 4, 5, 6

## Header 4
designator P?
Header 4-Pin; Satıcı: Digikey; Birim Fiyat: * USD; Depo Kodu: *; Paket: *; Satın Alma Linki: *; Datasheet: *; Value: *
footprint HDR4 (Connector; Header; 4 Position)
footprint HDR1X4_1.27mmp (Connector; Header; 4 Position, 0.050" pitch)
footprint HDR1X4_2.54mmp (Connector; Header; 4 Position 0.100" pitch)
pins: 1, 2, 3, 4

## Header 4X2
designator P?
Header, 4-Pin, Dual row; Satıcı: Digikey; Birim Fiyat: * USD; Depo Kodu: *; Paket: *; Satın Alma Linki: *; Datasheet: *; Value: *
footprint HDR2X4
pins: 1, 2, 3, 4, 5, 6, 7, 8

## Header 5
designator P?
Header 5-Pin; Satıcı: Digikey; Birim Fiyat: * USD; Depo Kodu: *; Paket: *; Satın Alma Linki: *; Datasheet: *; Value: *
footprint HDR1X5_1.27mmp (Connector; Header; 5 Position, 0.050" pitch)
footprint HDR1X5_2.54mmp (Connector; Header; 5 Position 0.100" pitch)
footprint CON5 (5mm aralıklı)
pins: 1, 2, 3, 4, 5

## Header 5X2
designator P?  (value not drawn)
Header, 5-Pin, Dual row; Satıcı: Digikey; Birim Fiyat: * USD; Depo Kodu: *; Paket: *; Satın Alma Linki: *; Datasheet: *; Value: *
footprint HDR2x5 (Connector; Header; 5x2 Position)
footprint CON5X2 (5mm aralıklı)
pins: 1, 2, 3, 4, 5, 6, 7, 8, 9, 10

## Header 6
designator P?  (value not drawn)
Header 6-Pin; Satıcı: Digikey; Birim Fiyat: * USD; Depo Kodu: *; Paket: *; Satın Alma Linki: *; Datasheet: *; Value: *
footprint HDR6 (Connector; Header; 6 Position)
footprint HDR1X6 (Connector; Header; 6 Position)
footprint HDR1X6_1.27mmp (Connector; Header; 6 Position, 0.050" pitch)
pins: 1, 2, 3, 4, 5, 6

## Header 6X2
designator P?  (value not drawn)
Header, 6-Pin, Dual row; Satıcı: Digikey; Birim Fiyat: * USD; Depo Kodu: *; Paket: *; Satın Alma Linki: *; Datasheet: *; Value: *
footprint HDR2x6 (Connector; Header; 6x2 Position)
footprint HDR2X6 - DAR (Connector; Header; 6x2 Position,dar aralıklı)
pins: 1, 2, 3, 4, 5, 6, 7, 8, 9, 10, 11, 12

## Header 7
designator P?  (value not drawn)
Header 7-Pin; Satıcı: Digikey; Birim Fiyat: * USD; Depo Kodu: *; Paket: *; Satın Alma Linki: *; Datasheet: *; Value: *
footprint HDR1X7 (Connector; Header; 7 Position)
pins: 1, 2, 3, 4, 5, 6, 7

## Header 7X2
designator P?  (value not drawn)
Header, 7-Pin, Dual row; Satıcı: Digikey; Birim Fiyat: * USD; Depo Kodu: *; Paket: *; Satın Alma Linki: *; Datasheet: *; Value: *
footprint HDR2x7 (Connector; Header; 7x2 Position)
footprint CON7X2 (5mm aralıklı)
pins: 1, 2, 3, 4, 5, 6, 7, 8, 9, 10, 11, 12, 13, 14

## Header 8
designator P?  (value not drawn)
Header 8-Pin; Satıcı: Digikey; Birim Fiyat: * USD; Depo Kodu: *; Paket: *; Satın Alma Linki: *; Datasheet: *; Value: *
footprint HDR1X8 (Connector; Header; 8 Position)
pins: 1, 2, 3, 4, 5, 6, 7, 8

## Header 8X2
designator P?  (value not drawn)
Header, 8-Pin, Dual row; Satıcı: Digikey; Birim Fiyat: * USD; Depo Kodu: *; Paket: *; Satın Alma Linki: *; Datasheet: *; Value: *
footprint HDR2x8 (Connector; Header; 8x2 Position)
pins: 1, 2, 3, 4, 5, 6, 7, 8, 9, 10, 11, 12, 13, 14, 15, 16

## Header 9
designator P?  (value not drawn)
Header 9-Pin; Satıcı: Digikey; Birim Fiyat: * USD; Depo Kodu: *; Paket: *; Satın Alma Linki: *; Datasheet: *; Value: *
footprint HDR1X9 (Connector; Header; 8 Position)
pins: 1, 2, 3, 4, 5, 6, 7, 8, 9

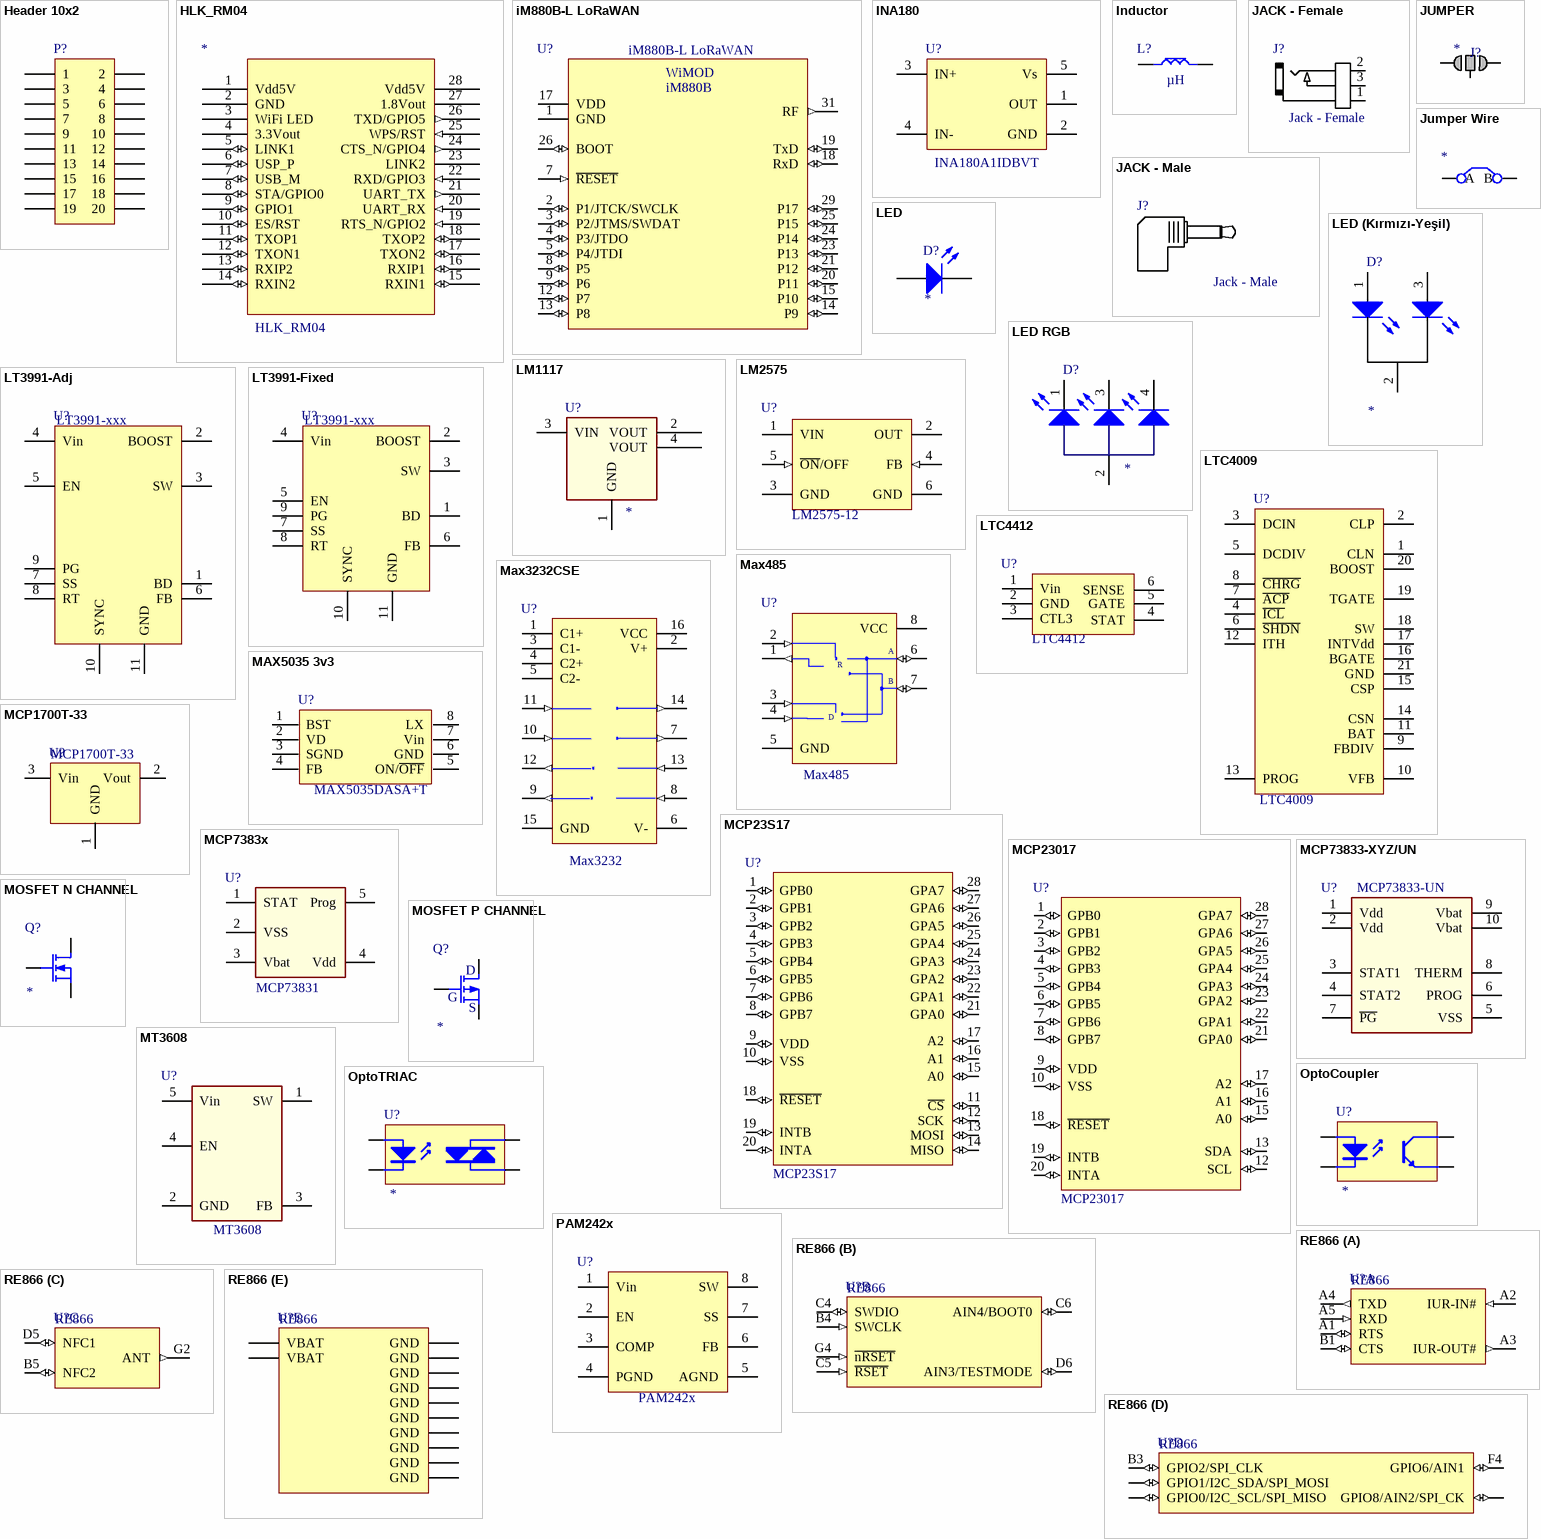
[diagram p2: symbols Header 10x2 to RE866]

## Header 10x2
designator P?  (value not drawn)
Header, 10x2-Pin, Dual row; Satıcı: Digikey; Birim Fiyat: * USD; Depo Kodu: *; Paket: *; Satın Alma Linki: *; Datasheet: *; Value: *
footprint BOX_HDR2X10 (Connector; Box Header; 10x2 Position)
pins: 1, 2, 3, 4, 5, 6, 7, 8, 9, 10, 11, 12, 13, 14, 15, 16, 17, 18, 19, 20

## HLK_RM04
designator *
HiLink HLK-RM04 Serial2WiFi Router; Depo Kodu: MODULE#WIFI#HLK_RM04; Satıcı: Digikey; Birim Fiyat: * USD; Paket: *; Satın Alma Linki: *; Datasheet: *; Value: HLK_RM04
footprint HLK-RM04
pins: 1 Vdd5V (power), 2 GND (power), 3 WiFi LED (power), 4 3.3Vout (power), 5 LINK1 (io), 6 USP_P (io), 7 USB_M (io), 8 STA/GPIO0 (io), 9 GPIO1 (io), 10 ES/RST (io), 11 TXOP1 (io), 12 TXON1 (io), 13 RXIP2 (io), 14 RXIN2 (io), 15 RXIN1 (io), 16 RXIP1 (io), 17 TXON2 (io), 18 TXOP2 (io), 19 RTS_N/GPIO2 (in), 20 UART_RX (in), 21 UART_TX (out), 22 RXD/GPIO3 (in), 23 LINK2, 24 CTS_N/GPIO4 (out), 25 WPS/RST (in), 26 TXD/GPIO5 (out), 27 1.8Vout (power), 28 Vdd5V

## iM880B-L LoRaWAN
designator U?
The 'iM880B-L LoRaWAN' is a compact and affordable radio module that operates in the unlicensed 868 MHz band and combines a powerful Cortex-M3 controller with the LoRa® SX1272 transceiver by Semtech Inc..; Depo Kodu: #rf#module#iM880B; Paket: SMD; Satıcı: WiMOD - IMST; Birim Fiyat: 13€; Satıcı Kodu: iM880B-L LoRaWAN - Long Range Radio Module; Satın Alma Linki: http://webshop.imst.de/im880b-l-long-range-radio-module.html; Datasheet: https://wireless-solutions.de/images/stories/downloads/Radio%20Modules/iM880B/General_Information/iM880B_Datasheet_V1_4.pdf; Manufacture Code: iM880B-L LoRaWAN; Value: iM880B-L LoRaWAN
footprint im880b (WiMOD iM880B)
pins: 1 GND (power), 2 P1/JTCK/SWCLK (io), 3 P2/JTMS/SWDAT (io), 4 P3/JTDO (io), 5 P4/JTDI (io), 6 GND (power) hidden to GND, 7 ~{RESET} (in), 8 P5 (io), 9 P6 (io), 10 NC hidden, 11 GND (power) hidden to GND, 12 P7 (io), 13 P8 (io), 14 P9 (io), 15 P10 (io), 16 GND (power) hidden to GND, 17 VDD (power), 18 RxD (io), 19 TxD (io), 20 P11 (io), 21 P12 (io), 22 GND (power) hidden to GND, 23 P13 (io), 24 P14 (io), 25 P15 (io), 26 BOOT (io), 27 GND (power) hidden to GND, 28 NC hidden, 29 P17 (io), 30 GND (power) hidden to GND, 31 RF (out), 32 GND (power) hidden to GND
text: WiMOD; iM880B

## INA180
designator U?, comment INA180A1IDBVT
INA180 Low- and High-Side Voltage Output,  Current-Sense Amplifier; Satıcı: Digikey; Birim Fiyat: * USD; Depo Kodu: *; Paket: *; Satın Alma Linki: *; Datasheet: *; Satıcı Kodu: *; Üretici Kodu: INA180A1IDBVT; Value: INA180A1IDBVT
footprint sot23-5
pins: 1 OUT, 2 GND, 3 IN+, 4 IN-, 5 Vs

## Inductor
designator L?, comment µH
Inductor Power 10µH 2.1A 7.6x7.6mm SMD; Depo Kodu: INDUCTOR#; Satıcı: Digikey; Birim Fiyat: * USD; Paket: SMD; Satın Alma Linki: *; Datasheet: *; Satıcı Kodu: *; Üretici Kodu: *; Doyma Akımı: *; Rating Akım: *; Üretici: *; Value: µH
footprint IND_WW_DR73 (Wire-wound power inductor, Cooper Bussmann DR73 series, IPC Medium Density)
footprint INDC1608N (Chip bead, Body 1.6x0.8mm, 0603, IPC Medium Density)
footprint INDC3225X250N (Chip Inductor, 2-Leads, Body 3.2x2.5mm, IPC Medium Density)
footprint INDM3225X240N (Molded Inductor, 2-Leads, Body 3.2x2.5mm, IPC Medium Density)
footprint Inductor_MS127
footprint IND_Coilcraft_DO3316P_SM (Wire-wound Power Inductor, 2-Leads, Body 12.95x9.4mm)
footprint IND_COILCRAFT_LPS4018 (Shielded Power Inductor, Body 4.0x4.0x1.8mm)
footprint IND_SMD_TOROID_1.2x1.0in (Inductor, Toroid, 30.5mm L x 25.4mm W x 13.5mm T)
footprint IND_COILCRAFT
footprint SER1360 (Coilcraft)
footprint SER2915
footprint STD_RAD_5Px0.8HLx10.1Dx10H (Electrolitic Radial Capacitor, 5mm pin space, 0.8mm Hole, 10.1mm diametre, 10 height)
footprint STD_RAD_5Px1.0HLx10.1Dx10H (Inductor, 5mm pin space, 1mm Hole, 10.1mm diameter, 10 height)
footprint IND_SMD_SLF7045 (SLF7045)
footprint CDRH2D11/HP (SMD Power Inductor)
footprint Ind_SRN8040TA (SRN8040TA Series - Semi-shielded Power Inductors)
pins: 1, 2

## JACK - Female
designator J?, comment Jack - Female
3.5mm Audio jack - Mono; Depo Kodu: CONNECTOR#JACK#FEMALE#; Satıcı: Digikey; Birim Fiyat: * USD; Paket: *; Satın Alma Linki: *; Datasheet: *; Value: Jack - Female
footprint conn_audiojackmono (CUI MJ-3502 3.5mm audio jack - mono)
pins: 1 Base, 2 TIP, 3 Middle

## JACK - Male
designator J?, comment Jack - Male
3.5mm Audio jack - Mono; Depo Kodu: CONNECTOR#JACK#MALE; Satıcı: Digikey; Birim Fiyat: * USD; Paket: *; Satın Alma Linki: *; Datasheet: *; Value: Jack - Male
pins: 1, 2

## JUMPER
designator J?
Selectable jumber; Satıcı: Digikey; Birim Fiyat: * USD; Depo Kodu: *; Paket: *; Satın Alma Linki: *; Datasheet: *; Value: *
footprint Pin Header 1x3 TH Pitch 2.54mm (PinHeader 1x3 TH Pitch 2.54mm)
footprint jump_3way (SMT Battery jumper pads)
pins: 1, 2, 3

## Jumper Wire
designator *  (value not drawn)
Jumper Wire; Satıcı: Digikey; Birim Fiyat: * USD; Depo Kodu: *; Paket: *; Satın Alma Linki: *; Datasheet: *; Value: *
footprint jump1 (SMT Battery jumper pads)
footprint jumper
footprint hdr2 (Connector; Header; 2 Position)
footprint jmp_set2 (Jumper 2pin; setting jumper)
pins: 1 A, 2 B

## LED
designator D?
Smd Led; Depo Kodu: LED#; Satıcı: Digikey; Birim Fiyat: * USD; Paket: *; Satın Alma Linki: *; Datasheet: *; Value: *
footprint LED-0603
footprint LED-0805-A
footprint led-0805-k
footprint LED-PLCC-SIDELED-LTST-108 (Lite-On Inc PLCC Side LED)
footprint LED-SMD (0805 Kılıf SMD Led)
footprint LED_2.5Px0.8HLx5RLx8.7H (Radial, Round with Domed Top,  2 Position, 2.5mm pin space, 0.8mm hole, Body 5mm Radius, Height 8.7mm)
footprint LED_GULL1
pins: A, K

## LED (Kırmızı-Yeşil)
designator D?
Dual Colour LED; Depo Kodu: LED#; Satıcı: Digikey; Birim Fiyat: * USD; Paket: *; Satın Alma Linki: *; Datasheet: *; Value: *
footprint MandoLED (Dual Colour LED)
pins: 1 A (power) "Green", 2 K (power), 3 A (power) "Red"

## LED RGB
designator D?
RGB Colour LED; Depo Kodu: LED#; Satıcı: Digikey; Birim Fiyat: * USD; Paket: *; Satın Alma Linki: *; Datasheet: *; Satıcı Kodu: *; Üretici Kodu: *; Gerilim: *; Akım: *; Value: *
footprint LED_2.5Px0.8HLx5R-RGB (Radial, Round with Domed Top,  2 Position, 2.5mm pin space, 0.8mm hole, Body 5mm Radius, Height 8.7mm)
pins: 1 R (power) "Green", 2 K (power), 3 G (power) "Red", 4 B (power) "Red"

## LM1117
designator U?
800mA 3.3V Low Dropout Linear Regulator; Depo Kodu: REGULATOR#LDO#LM1117_?; Paket: SOT223; Satıcı: Mouser; Satın Alma Linki: *; Birim Fiyat: *; Datasheet: *; Value: *
footprint SOT223 (SOT223 /SC-73)
pins: 1 GND (power), 2 VOUT, 3 VIN (power), 4 VOUT (power)

## LM2575
designator U?, comment LM2575-12
SIMPLE SWITCHER 1A Step-Down Voltage Regulator; Depo Kodu: REGULATOR#SWITCH#LM2576-12; Paket: TO-263_MD; Satıcı: Digikey; Birim Fiyat: * USD; Satın Alma Linki: *; Datasheet: *; Value: LM2575-12
footprint TO-220-5 (TO, Thru-Hole, Vertical, Heatsink Mounted; 5 Bent Staggered Leads; Pitch 1.7mm)
footprint TO-263_MD (D2-PAK, 6-Leads, Body 8.6x10.2mm, Pitch 1.7mm, Lead Span 14.1mm, IPC Medium Density)
pins: 1 VIN (power), 2 OUT (power), 3 GND (power), 4 FB (in), 5 ~{ON}/OFF (in), 6 GND (power)

## LT3991-Adj
designator U?, comment LT3991-xxx
55V, 1.2A Step-Down  Regulator with 2.8µA  Quiescent Current; Paket: MSOP-10; Satıcı: Digikey; Depo Kodu: *; Satın Alma Linki: *; Birim Fiyat: *; Datasheet: http://cds.linear.com/docs/en/datasheet/3991fa.pdf; Manufacturer Code: *; Suplier Code: *; Value: LT3991-xxx
footprint MSOP-Power Pad
pins: 1 BD, 2 BOOST, 3 SW, 4 Vin, 5 EN, 6 FB, 7 SS, 8 RT, 9 PG, 10 SYNC, 11 GND

## LT3991-Fixed
designator U?, comment LT3991-xxx
55V, 1.2A Step-Down  Regulator with 2.8µA  Quiescent Current; Paket: MSOP-10; Satıcı: Digikey; Depo Kodu: *; Satın Alma Linki: *; Birim Fiyat: *; Datasheet: http://cds.linear.com/docs/en/datasheet/3991fa.pdf; Manufacturer Code: *; Suplier Code: *; Value: LT3991-xxx
footprint MSOP10
pins: 1 BD, 2 BOOST, 3 SW, 4 Vin, 5 EN, 6 FB, 7 SS, 8 RT, 9 PG, 10 SYNC, 11 GND

## LTC4009
designator U?
High Efficiency,  Multi-Chemistry  Battery Charger; Depo Kodu: IC#CHARGER#LTC4009; Paket: LPQFN20; Satıcı: Digikey; Satın Alma Linki: *; Birim Fiyat: *; Datasheet: http://cds.linear.com/docs/en/datasheet/4009fd.pdf; Value: LTC4009
footprint QUAD20
pins: 1 CLN (power), 2 CLP (power), 3 DCIN (power), 4 ~{ICL} (power), 5 DCDIV (power), 6 ~{SHDN} (power), 7 ~{ACP} (power), 8 ~{CHRG} (power), 9 FBDIV (power), 10 VFB (power), 11 BAT (power), 12 ITH (power), 13 PROG (power), 14 CSN (power), 15 CSP (power), 16 BGATE (power), 17 INTVdd (power), 18 SW (power), 19 TGATE (power), 20 BOOST (power), 21 GND (power)

## LTC4412
designator U?
Low Loss PowerPath™   Controller in ThinSOT; Depo Kodu: IC#POWER#POWERSWITCHER; Paket: TSOT-23; Satıcı: Digikey; Birim Fiyat: * USD; Satın Alma Linki: *; Datasheet: http://cds.linear.com/docs/en/datasheet/4412fb.pdf; Value: LTC4412
footprint SOT23-6
pins: 1 Vin, 2 GND, 3 CTL3, 4 STAT, 5 GATE (power), 6 SENSE (power)

## Max485
designator U?
Low-Power, Slew-Rate-Limited RS-485/RS-422 Transceiver; Depo Kodu: IC#CONVERTER#MAX485; Paket: SOIC8; Satıcı: Digikey; Birim Fiyat: * USD; Satın Alma Linki: *; Datasheet: *; Value: Max485
footprint SOIC8 (SOIC, 8-Leads, Body 5,0x4,0mm (max), Pitch 1,27mm, IPC Low Density)
pins: 1 RO (out), 2 ~{RE} (in), 3 DE (in), 4 DI (in), 5 GND (power), 6 A (io), 7 B (io), 8 VCC (power)
text: R; D

## Max3232CSE
designator U?, comment Max3232
3.0V TO 5.5V, Low-Power, up to 1Mbps, True RS-232 Transceiver Using Four 0.1µF External Capacitor; Depo Kodu: IC#CONVERTER#MAX3232; Paket: SOIC16; Satıcı: Digikey; Birim Fiyat: * USD; Satın Alma Linki: *; Datasheet: *; Value: Max3232
footprint soic16 (SOIC, 16-Leads, Body 10,0x4,0mm (max), Pitch 1,27mm, IPC Low Density)
pins: 1 C1+, 2 V+ (power), 3 C1-, 4 C2+, 5 C2-, 6 V- (power), 7 T2OUT (out), 8 R2IN (in), 9 R2OUT (out), 10 T2IN (in), 11 T1IN (in), 12 R1OUT (out), 13 R1IN (in), 14 T1OUT (out), 15 GND (power), 16 VCC (power)

## MAX5035 3v3
designator U?, comment MAX5035DASA+T
MAX5035 1A, 76V, High-Efficiency MAXPower  Step-Down DC-DC Converter; Depo Kodu: REGULATOR#SWITCH#MAX5035-3v3; Paket: SO8; Satıcı: Mouser; Birim Fiyat: 3,70; Satın Alma Linki: http://www.mouser.com.tr/ProductDetail/Maxim-Integrated/MAX5035DASA+T/?qs=sGAEpiMZZMtitjHzVIkrqUmW7fHvDhXHRoUHUHSMCVk%3d; Datasheet: http://www.mouser.com/ds/2/256/MAX5035-104255.pdf; Value: MAX5035DASA+T
footprint SOIC8 (SOIC, 8-Leads, Body 5,0x4,0mm (max), Pitch 1,27mm, IPC Low Density)
pins: 1 BST (power), 2 VD (power), 3 SGND (power), 4 FB (power), 5 ON/~{OFF} (power), 6 GND (power), 7 Vin (power), 8 LX (power)

## MCP23S17
designator U?
16-Bit I/O Expander with Serial Interface; Depo Kodu: IC#MCP23S17; Paket: SSOP28; Satıcı: Digikey; Satın Alma Linki: *; Birim Fiyat: *; Datasheet: http://ww1.microchip.com/downloads/en/DeviceDoc/21952b.pdf; Value: MCP23S17
footprint SSOP.28_MD (SSOP, 28-Leads, Body 10,5x5,6mm (max), Pitch 0,65mm, IPC Medium Density)
pins: 1 GPB0 (io), 2 GPB1 (io), 3 GPB2 (io), 4 GPB3 (io), 5 GPB4 (io), 6 GPB5 (io), 7 GPB6 (io), 8 GPB7 (io), 9 VDD (io), 10 VSS (io), 11 ~{CS} (io), 12 SCK (io), 13 MOSI (io), 14 MISO (io), 15 A0 (io), 16 A1 (io), 17 A2 (io), 18 ~{RESET} (io), 19 INTB (io), 20 INTA (io), 21 GPA0 (io), 22 GPA1 (io), 23 GPA2 (io), 24 GPA3 (io), 25 GPA4 (io), 26 GPA5 (io), 27 GPA6 (io), 28 GPA7 (io)

## MCP1700T-33
designator U?
Low Quiescent Current LDO; Depo Kodu: REGULATOR#LDO#MCP1700-33; Satıcı: Digikey; Birim Fiyat: * USD; Paket: *; Satın Alma Linki: *; Datasheet: *; Value: MCP1700T-33
footprint SOT23-3 (SOT23, 3 pin)
pins: 1 GND (power), 2 Vout (power), 3 Vin (power)

## MCP7383x
designator U?, comment MCP73831
Li-Ion Charger; Depo Kodu: IC#CHARGER#MCP73831; Paket: SOT23-5; Satıcı: Digikey; Birim Fiyat: * USD; Satın Alma Linki: http://www.digikey.com/product-detail/en/microchip-technology/MCP73831T-2ACI-OT/MCP73831T-2ACI-OTCT-ND/1979802; Datasheet: https://www.sparkfun.com/datasheets/Prototyping/Batteries/MCP73831T.pdf; Satıcı Kodu: *; Value: MCP73831
footprint SOT23-5
pins: 1 STAT (power) "Charge Enable", 2 VSS (power), 3 Vbat (power) "Battery Power", 4 Vdd (power), 5 Prog (power) "100mA/500mA"

## MCP23017
designator U?
16-Bit I/O Expander with Serial Interface; Depo Kodu: IC#MCP23017; Paket: SSOP28; Satıcı: Digikey; Satın Alma Linki: *; Birim Fiyat: *; Datasheet: http://ww1.microchip.com/downloads/en/DeviceDoc/21952b.pdf; Value: MCP23017
footprint SSOP.28_MD (SSOP, 28-Leads, Body 10,5x5,6mm (max), Pitch 0,65mm, IPC Medium Density)
pins: 1 GPB0 (io), 2 GPB1 (io), 3 GPB2 (io), 4 GPB3 (io), 5 GPB4 (io), 6 GPB5 (io), 7 GPB6 (io), 8 GPB7 (io), 9 VDD (io), 10 VSS (io), 11 NC (io) hidden, 12 SCL (io), 13 SDA (io), 14 NC (io) hidden, 15 A0 (io), 16 A1 (io), 17 A2 (io), 18 ~{RESET} (io), 19 INTB (io), 20 INTA (io), 21 GPA0 (io), 22 GPA1 (io), 23 GPA2 (io), 24 GPA3 (io), 25 GPA4 (io), 26 GPA5 (io), 27 GPA6 (io), 28 GPA7 (io)

## MCP73833-XYZ/UN
designator U?, comment MCP73833-UN
Li-Ion Charger; Depo Kodu: IC#CHARGER#MCP73833-UN; Paket: MSOP-10; Satıcı: Digikey; Birim Fiyat: * USD; Satın Alma Linki: https://www.digikey.com/product-detail/en/microchip-technology/MCP73833T-FCI-UN/MCP73833T-FCI-UNCT-ND/5818703; Datasheet: http://ww1.microchip.com/downloads/en/DeviceDoc/22005b.pdf; Satıcı Kodu: *; Value: MCP73833-UN
footprint MSOP (MSOP 10-Lead Plastic , Exposed Die Pad)
pins: 1 Vdd (power), 2 Vdd (power), 3 STAT1 (oc) "Charge Status", 4 STAT2 (oc) "Charge Status", 5 VSS (power), 6 PROG (hiz) "100mA/500mA", 7 ~{PG} (hiz) "100mA/500mA", 8 THERM (hiz) "100mA/500mA", 9 Vbat (power) "Battery Power", 10 Vbat (power) "Battery Power"

## MOSFET N CHANNEL
designator Q?
N CHANNEL MOSFET; Satıcı: Digikey; Birim Fiyat: * USD; Depo Kodu: *; Paket: *; Satın Alma Linki: *; Datasheet: *; Value: *
footprint SOT23-3 (SOT23, 3 pin)
footprint TO220
pins: 1 D, 2 G, 3 S

## MOSFET P CHANNEL
designator Q?
MOSFET P CHANNEL; Satıcı: Digikey; Birim Fiyat: * USD; Depo Kodu: *; Paket: *; Satın Alma Linki: *; Datasheet: *; Value: *
footprint TO220
footprint SOT23-3 (SOT23, 3 pin)
pins: 1 D, 2 G, 3 S

## MT3608
designator U?
High Efficiency 1.2MHz  2A Step Up Converter; Paket: SOT23-6; Satıcı: Direnc.net; Satıcı Kodu: AP3211KTR-G1DICT-ND; Depo Kodu: *; Satın Alma Linki: http://www.digikey.com/product-detail/en/diodes-incorporated/AP3211KTR-G1/AP3211KTR-G1DICT-ND/4505305; Birim Fiyat: *; Datasheet: https://www.olimex.com/Products/Breadboarding/BB-PWR-3608/resources/MT3608.pdf; Üretici Kodu: MT3608; Value: MT3608
footprint SOT23-6
pins: 1 SW (power), 2 GND (power), 3 FB (power), 4 EN, 5 Vin (power), 6 NC (power) hidden

## OptoCoupler
designator U?
4-Pin Phototransistor Optocoupler; Satıcı: Digikey; Depo Kodu: *; Paket: *; Satın Alma Linki: *; Birim Fiyat: *; Datasheet: *; Value: *
footprint dip4
footprint sop4
pins: 1 "Anode", 2 "Cathode", 3 E "Emitter", 4 C "Collector"

## OptoTRIAC
designator U?
4-Pin Phototraiac TRIAC Optocoupler; Satıcı: Digikey; Depo Kodu: *; Paket: *; Satın Alma Linki: *; Birim Fiyat: *; Datasheet: *; Value: *
footprint dip4
footprint sop4
pins: 1 "Anode", 2 "Cathode", 3 A/K, 4 A/K

## PAM242x
designator U?
3A, 4.5A, 5.5A PWM STEP-UP DC-DC CONVERTER; Depo Kodu: IC#CHARGER#PAM242x; Paket: SOP-8; Satıcı: Digikey; Topology: Boost; Satın Alma Linki: https://www.digikey.com/product-detail/en/diodes-incorporated/PAM2421AECADJR/PAM2421AECADJRDICT-ND/4333269; Birim Fiyat: *; Datasheet: https://media.digikey.com/pdf/Data%20Sheets/Diodes%20PDFs/PAM2421,22,23.pdf; Satıcı Kodu: *; AppNote: https://www.diodes.com/assets/Evaluation-Boards/PAM2421-User-Guide.pdf; Value: PAM242x
footprint SOP8
pins: 1 Vin, 2 EN, 3 COMP, 4 PGND, 5 AGND, 6 FB, 7 SS, 8 SW

## RE866
designator U?
This RE866 provides ultra-low power consumption with an outstanding wireless range and a secured, powerful solution for customers looking for a simple approach to enable remote management and configuration via PC or mobile or the module can act as a LoRa gateway for asubnetwork of connected BLE sensors.; Paket: LGA49; Satıcı: Digikey; Depo Kodu: *; Satın Alma Linki: *; Datasheet: *; Manufacture Code: RE866; Satıcı Kodu: *; Value: RE866
footprint lga49 (RE866 LGA Footprint)
part A pins: A1 RTS (io), A2 IUR-IN# (in), A3 IUR-OUT# (out), A4 TXD (out), A5 RXD (in), B1 CTS (io)
part B pins: B4 SWCLK (in), C4 SWDIO (io), C5 ~{RSET} (in), C6 AIN4/BOOT0 (io), D6 AIN3/TESTMODE (io), G4 ~{nRSET} (in)
part C pins: B5 NFC2 (io), D5 NFC1 (io), G2 ANT (out)
part D pins: B2 GPIO8/AIN2/SPI_CK (io), B3 GPIO2/SPI_CLK (io), C1 GPIO1/I2C_SDA/SPI_MOSI (io), C2 GPIO0/I2C_SCL/SPI_MISO (io), F4 GPIO6/AIN1 (io)
part E pins: A6 RESERVED hidden, A7 RESERVED hidden, B6 RESERVED hidden, B7 RESERVED hidden, C3 GND (power), C7 RESERVED hidden, D1 GND (power), D2 GND (power), D3 RESERVED hidden, D4 RESERVED hidden, D7 RESERVED hidden, E1 VBAT (power), E2 VBAT (power), E3 GND (power), E4 RESERVED hidden, E5 RESERVED hidden, E6 RESERVED hidden, E7 RESERVED hidden, F1 GND (power), F2 GND (power), F3 GND (power), F5 RESERVED hidden, F6 GND (power), F7 RESERVED hidden, G1 GND (power), G3 GND (power), G5 RESERVED hidden, G6 RESERVED hidden, G7 RESERVED hidden

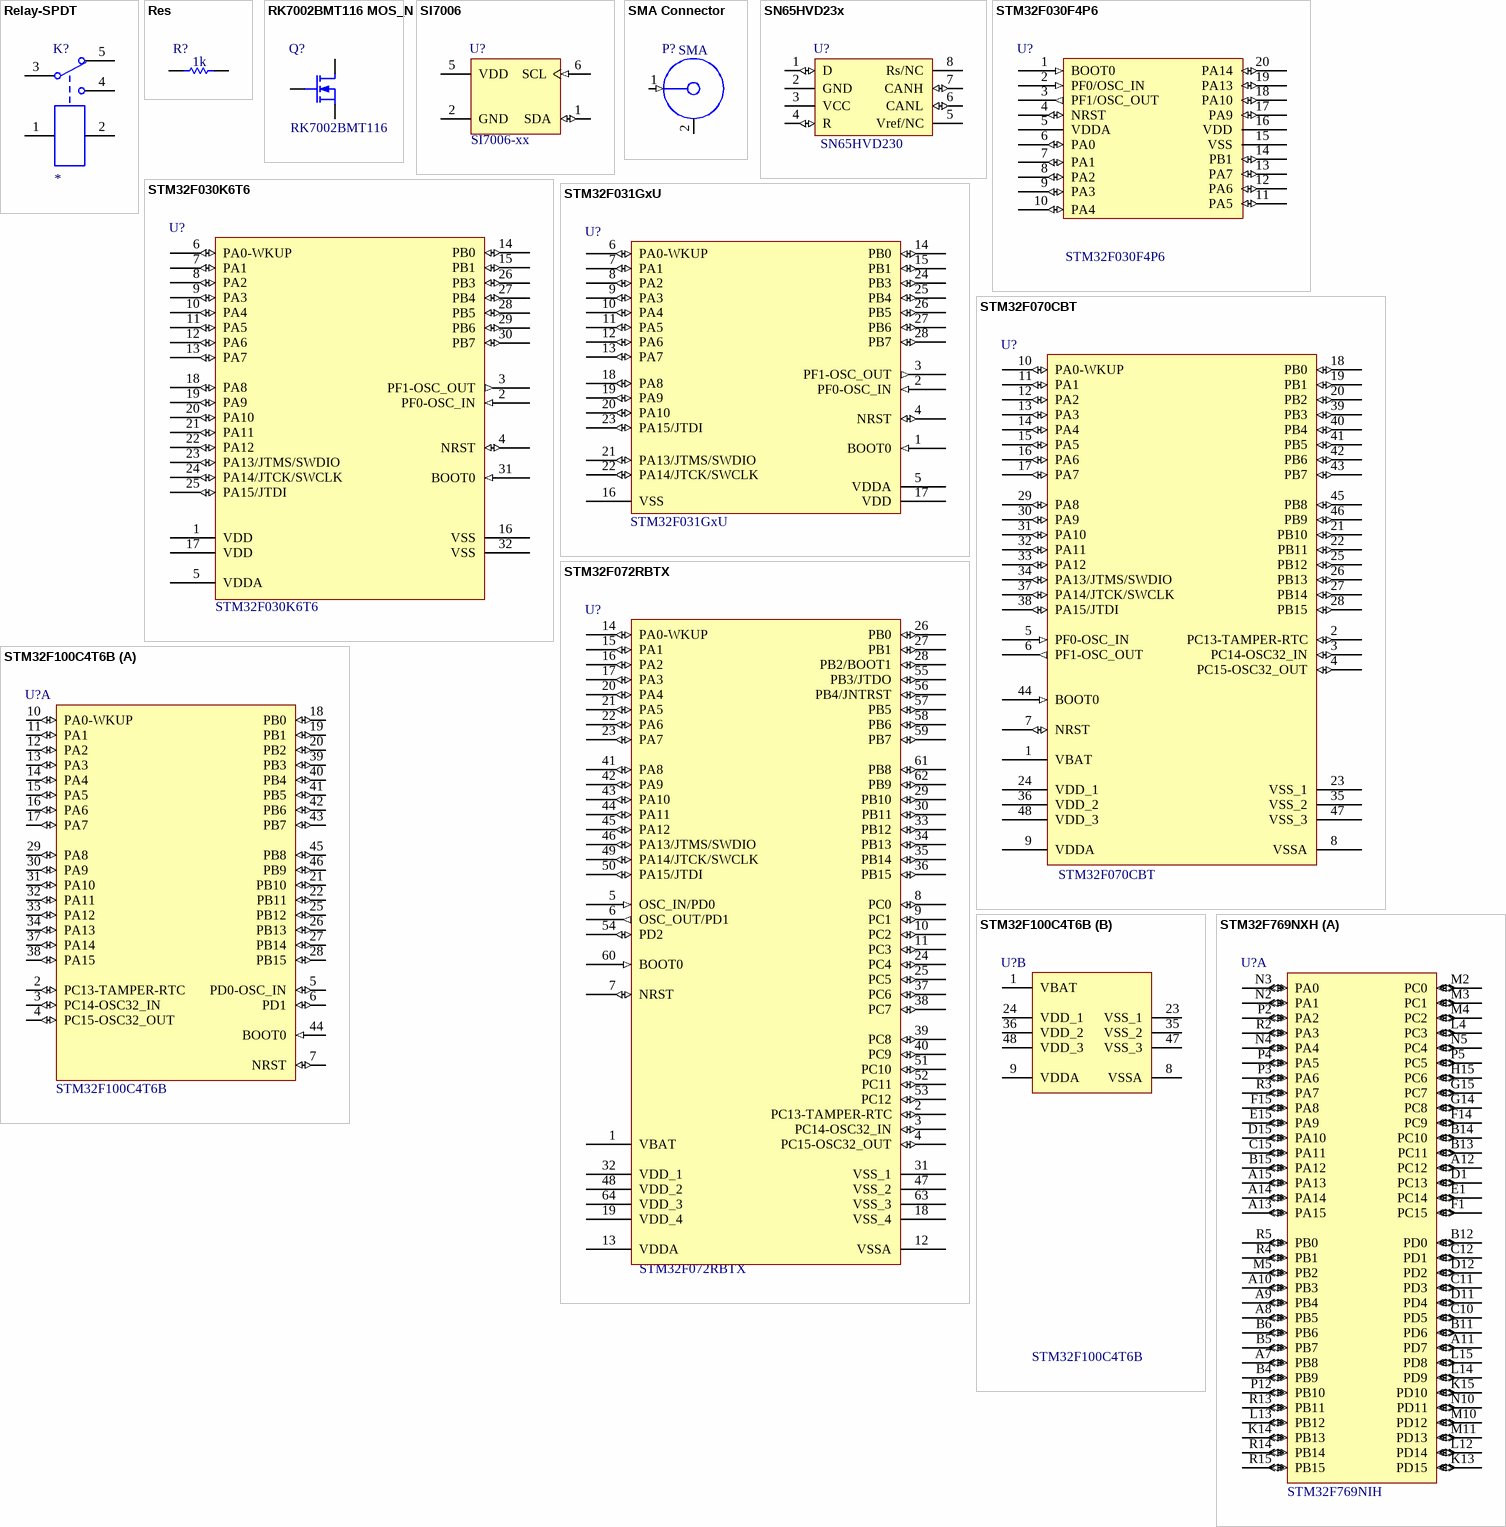
[diagram p3: symbols Relay-SPDT to STM32F769NXH]

## Relay-SPDT
designator K?
Relay; Depo Kodu: SW#RELAY#; Satıcı: Digikey; Birim Fiyat: * USD; Paket: *; Satın Alma Linki: *; Datasheet: *; Value: *
footprint relay-spdt (Single-Pole Dual-Throw Relay)
pins: 1, 2, 3, 4, 5

## Res
designator R?, comment 1k
Resistor; Depo Kodu: RES#; Paket: 0805; Satıcı: Digikey; Birim Fiyat: * USD; Satın Alma Linki: *; Datasheet: *; Value: 1k
footprint 14-1210 (Chip Resistor, Body 3.2x2.5mm, IPC High Density)
footprint AXIAL-7.62PX0.85HLX5.08LX1.524WX1.524H (Axial Device, 7.62 pin space, body 5.05mmx1.524mm, 0.85mm hole, 1.524mm height)
footprint r.0603 (Chip Resistor, Body 1.6x0.8mm, IPC High Density)
footprint r.0805 (Chip Resistor, Body 2.0x1.3mm, IPC High Density)
footprint r.1206 (Chip Resistor, Body 3.1x1.6mm, IPC High Density)
footprint r.2512
footprint R.2010
pins: 1, 2